# Altium integrated library National Semiconductor Switcher.IntLib: 2226 symbols (part 24 of 59)
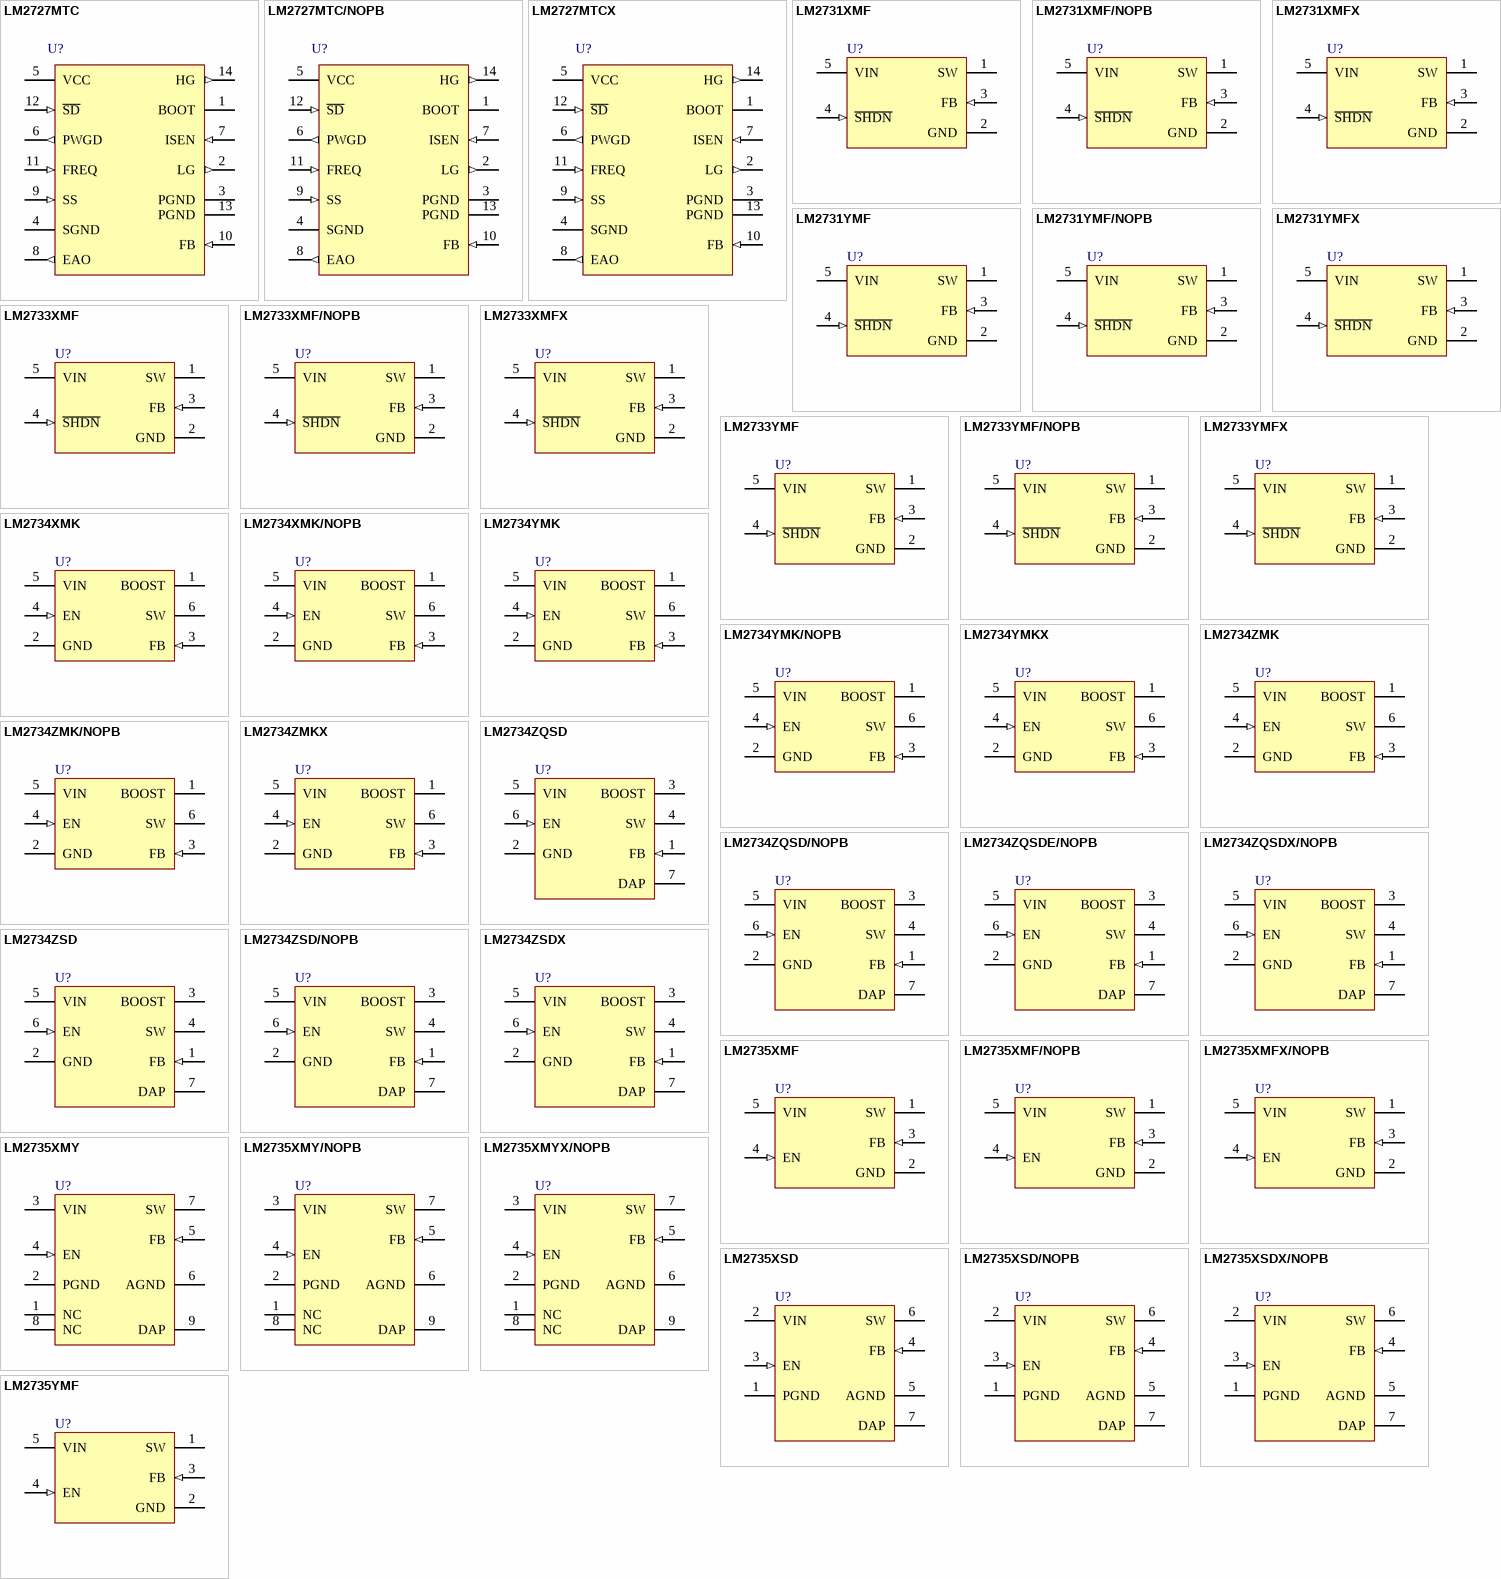
[diagram p92: symbols LM2727MTC to LM2735YMF]

## LM2735XMY
designator U?
520kHz/1.6MHz - Space-Efficient Boost and SEPIC DC-DC Regulator, 8-pin eMSOP; PartNumber: LM2735XMY; Manufacturer: National Semiconductor; PackageTopMarking: ZXTT*SRJB; PowerWise: N; CompType: Switcher; High-Reliability: Y; DatasheetVersion: Feb-2009; PackageVersion: revA, Nov-2003; PackageReference: MUY08A; PackageDescription: Molded Mini-SO, Exposed Pad, .118 x .118 x .034in Body, 8 Lead, .0256in Pitch; RoHS: Y; PinCount: 8; Code_JEDEC: MO-187-AA; ComponentLink1Description: Manufacturer URL; ComponentLink1URL: http://www.national.com/; ComponentLink2Description: LM2735 Datasheet; ComponentLink2URL: http://www.national.com/ds/LM/LM2735.pdf; ComponentLink3Description: LM2735 Web Page; ComponentLink3URL: http://www.national.com/pf/LM/LM2735.html; ComponentLink4Description: MUY08A Package Page; ComponentLink4URL: http://www.national.com/packaging/folders/muy08a.html
footprint MUY08A_N (TSOP, 8-Leads, Body 3x3mm, Pitch 0.65mm, Thermal Pad, IPC Medium Density)
footprint MUY08A_L (TSOP, 8-Leads, Body 3x3mm, Pitch 0.65mm, Thermal Pad, IPC High Density)
footprint MUY08A_M (TSOP, 8-Leads, Body 3x3mm, Pitch 0.65mm, Thermal Pad, IPC Low Density)
pins: 1 NC, 2 PGND (power), 3 VIN (power), 4 EN (in), 5 FB (in), 6 AGND (power), 7 SW (power), 8 NC, 9 DAP (power)

## LM2735XMY/NOPB
designator U?
520kHz/1.6MHz - Space-Efficient Boost and SEPIC DC-DC Regulator, 8-pin eMSOP, Pb-Free; PartNumber: LM2735XMY/NOPB; Manufacturer: National Semiconductor; PackageTopMarking: ZXTT*SRJB; PowerWise: N; CompType: Switcher; High-Reliability: Y; DatasheetVersion: Feb-2009; PackageVersion: revA, Nov-2003; PackageReference: MUY08A; PackageDescription: Molded Mini-SO, Exposed Pad, .118 x .118 x .034in Body, 8 Lead, .0256in Pitch; RoHS: Y; PinCount: 8; Code_JEDEC: MO-187-AA; ComponentLink1Description: Manufacturer URL; ComponentLink1URL: http://www.national.com/; ComponentLink2Description: LM2735 Datasheet; ComponentLink2URL: http://www.national.com/ds/LM/LM2735.pdf; ComponentLink3Description: LM2735 Web Page; ComponentLink3URL: http://www.national.com/pf/LM/LM2735.html; ComponentLink4Description: MUY08A Package Page; ComponentLink4URL: http://www.national.com/packaging/folders/muy08a.html
footprint MUY08A_N (TSOP, 8-Leads, Body 3x3mm, Pitch 0.65mm, Thermal Pad, IPC Medium Density)
footprint MUY08A_L (TSOP, 8-Leads, Body 3x3mm, Pitch 0.65mm, Thermal Pad, IPC High Density)
footprint MUY08A_M (TSOP, 8-Leads, Body 3x3mm, Pitch 0.65mm, Thermal Pad, IPC Low Density)
pins: 1 NC, 2 PGND (power), 3 VIN (power), 4 EN (in), 5 FB (in), 6 AGND (power), 7 SW (power), 8 NC, 9 DAP (power)

## LM2735XMYX/NOPB
designator U?
520kHz/1.6MHz - Space-Efficient Boost and SEPIC DC-DC Regulator, 8-pin eMSOP, Pb-Free; PartNumber: LM2735XMYX/NOPB; Manufacturer: National Semiconductor; PackageTopMarking: ZXTT*SRJB; PowerWise: N; CompType: Switcher; High-Reliability: Y; DatasheetVersion: Feb-2009; PackageVersion: revA, Nov-2003; PackageReference: MUY08A; PackageDescription: Molded Mini-SO, Exposed Pad, .118 x .118 x .034in Body, 8 Lead, .0256in Pitch; RoHS: Y; PinCount: 8; Code_JEDEC: MO-187-AA; ComponentLink1Description: Manufacturer URL; ComponentLink1URL: http://www.national.com/; ComponentLink2Description: LM2735 Datasheet; ComponentLink2URL: http://www.national.com/ds/LM/LM2735.pdf; ComponentLink3Description: LM2735 Web Page; ComponentLink3URL: http://www.national.com/pf/LM/LM2735.html; ComponentLink4Description: MUY08A Package Page; ComponentLink4URL: http://www.national.com/packaging/folders/muy08a.html
footprint MUY08A_N (TSOP, 8-Leads, Body 3x3mm, Pitch 0.65mm, Thermal Pad, IPC Medium Density)
footprint MUY08A_L (TSOP, 8-Leads, Body 3x3mm, Pitch 0.65mm, Thermal Pad, IPC High Density)
footprint MUY08A_M (TSOP, 8-Leads, Body 3x3mm, Pitch 0.65mm, Thermal Pad, IPC Low Density)
pins: 1 NC, 2 PGND (power), 3 VIN (power), 4 EN (in), 5 FB (in), 6 AGND (power), 7 SW (power), 8 NC, 9 DAP (power)

## LM2735XSD
designator U?
520kHz/1.6MHz - Space-Efficient Boost and SEPIC DC-DC Regulator, 6-pin LLP; PartNumber: LM2735XSD; Manufacturer: National Semiconductor; PackageTopMarking: ZXYTT*2735X; PowerWise: N; CompType: Switcher; High-Reliability: Y; DatasheetVersion: Feb-2009; PackageVersion: revA, Jul-2003; PackageReference: SDE06A; PackageDescription: LLP, Plastic, Dual, 3 x 3 x 0.8mm Body, 6 Lead, 0.95mm Pitch, No Pullback; RoHS: Y; PinCount: 6; ComponentLink1Description: Manufacturer URL; ComponentLink1URL: http://www.national.com/; ComponentLink2Description: LM2735 Datasheet; ComponentLink2URL: http://www.national.com/ds/LM/LM2735.pdf; ComponentLink3Description: LM2735 Web Page; ComponentLink3URL: http://www.national.com/pf/LM/LM2735.html; ComponentLink4Description: SDE06A Package Page; ComponentLink4URL: http://www.national.com/packaging/folders/sde06a.html
footprint SDE06A_full (SON, 6-Leads, Body 3x3 mm, Pitch 0.95mm, Full Paste, NSC Recommended)
footprint SDE06A_quad (SON, 6-Leads, Body 3x3 mm, Pitch 0.95mm, Quad Paste, NSC Recommended)
pins: 1 PGND (power), 2 VIN (power), 3 EN (in), 4 FB (in), 5 AGND (power), 6 SW (power), 7 DAP (power)

## LM2735XSD/NOPB
designator U?
520kHz/1.6MHz - Space-Efficient Boost and SEPIC DC-DC Regulator, 6-pin LLP, Pb-Free; PartNumber: LM2735XSD/NOPB; Manufacturer: National Semiconductor; PackageTopMarking: ZXYTT*2735X; PowerWise: N; CompType: Switcher; High-Reliability: Y; DatasheetVersion: Feb-2009; PackageVersion: revA, Jul-2003; PackageReference: SDE06A; PackageDescription: LLP, Plastic, Dual, 3 x 3 x 0.8mm Body, 6 Lead, 0.95mm Pitch, No Pullback; RoHS: Y; PinCount: 6; ComponentLink1Description: Manufacturer URL; ComponentLink1URL: http://www.national.com/; ComponentLink2Description: LM2735 Datasheet; ComponentLink2URL: http://www.national.com/ds/LM/LM2735.pdf; ComponentLink3Description: LM2735 Web Page; ComponentLink3URL: http://www.national.com/pf/LM/LM2735.html; ComponentLink4Description: SDE06A Package Page; ComponentLink4URL: http://www.national.com/packaging/folders/sde06a.html
footprint SDE06A_full (SON, 6-Leads, Body 3x3 mm, Pitch 0.95mm, Full Paste, NSC Recommended)
footprint SDE06A_quad (SON, 6-Leads, Body 3x3 mm, Pitch 0.95mm, Quad Paste, NSC Recommended)
pins: 1 PGND (power), 2 VIN (power), 3 EN (in), 4 FB (in), 5 AGND (power), 6 SW (power), 7 DAP (power)

## LM2735XSDX/NOPB
designator U?
520kHz/1.6MHz - Space-Efficient Boost and SEPIC DC-DC Regulator, 6-pin LLP, Pb-Free; PartNumber: LM2735XSDX/NOPB; Manufacturer: National Semiconductor; PackageTopMarking: ZXYTT*2735X; PowerWise: N; CompType: Switcher; High-Reliability: Y; DatasheetVersion: Feb-2009; PackageVersion: revA, Jul-2003; PackageReference: SDE06A; PackageDescription: LLP, Plastic, Dual, 3 x 3 x 0.8mm Body, 6 Lead, 0.95mm Pitch, No Pullback; RoHS: Y; PinCount: 6; ComponentLink1Description: Manufacturer URL; ComponentLink1URL: http://www.national.com/; ComponentLink2Description: LM2735 Datasheet; ComponentLink2URL: http://www.national.com/ds/LM/LM2735.pdf; ComponentLink3Description: LM2735 Web Page; ComponentLink3URL: http://www.national.com/pf/LM/LM2735.html; ComponentLink4Description: SDE06A Package Page; ComponentLink4URL: http://www.national.com/packaging/folders/sde06a.html
footprint SDE06A_full (SON, 6-Leads, Body 3x3 mm, Pitch 0.95mm, Full Paste, NSC Recommended)
footprint SDE06A_quad (SON, 6-Leads, Body 3x3 mm, Pitch 0.95mm, Quad Paste, NSC Recommended)
pins: 1 PGND (power), 2 VIN (power), 3 EN (in), 4 FB (in), 5 AGND (power), 6 SW (power), 7 DAP (power)

## LM2735YMF
designator U?
520kHz/1.6MHz - Space-Efficient Boost and SEPIC DC-DC Regulator, 5-pin SOT-23; PartNumber: LM2735YMF; Manufacturer: National Semiconductor; PackageTopMarking: SLFB*XTT; PowerWise: N; CompType: Switcher; High-Reliability: Y; DatasheetVersion: Feb-2009; PackageVersion: revD, Aug-2008; PackageReference: MF05A; PackageDescription: Molded SOT-23, .115 x .063 x .040 in Body, 5 Lead, .0375 in Pitch; RoHS: Y; PinCount: 5; ComponentLink1Description: Manufacturer URL; ComponentLink1URL: http://www.national.com/; ComponentLink2Description: LM2735 Datasheet; ComponentLink2URL: http://www.national.com/ds/LM/LM2735.pdf; ComponentLink3Description: LM2735 Web Page; ComponentLink3URL: http://www.national.com/pf/LM/LM2735.html; ComponentLink4Description: MF05A Package Page; ComponentLink4URL: http://www.national.com/packaging/folders/mf05a.html
footprint MF05A_N (SOT23, 5-Leads, Body 2.9x1.6mm, Pitch 0.95mm, Lead Span 2.8mm, IPC Medium Density)
footprint MF05A_L (SOT23, 5-Leads, Body 2.9x1.6mm, Pitch 0.95mm, Lead Span 2.8mm, IPC High Density)
footprint MF05A_M (SOT23, 5-Leads, Body 2.9x1.6mm, Pitch 0.95mm, Lead Span 2.8mm, IPC Low Density)
pins: 1 SW (power), 2 GND (power), 3 FB (in), 4 EN (in), 5 VIN (power)

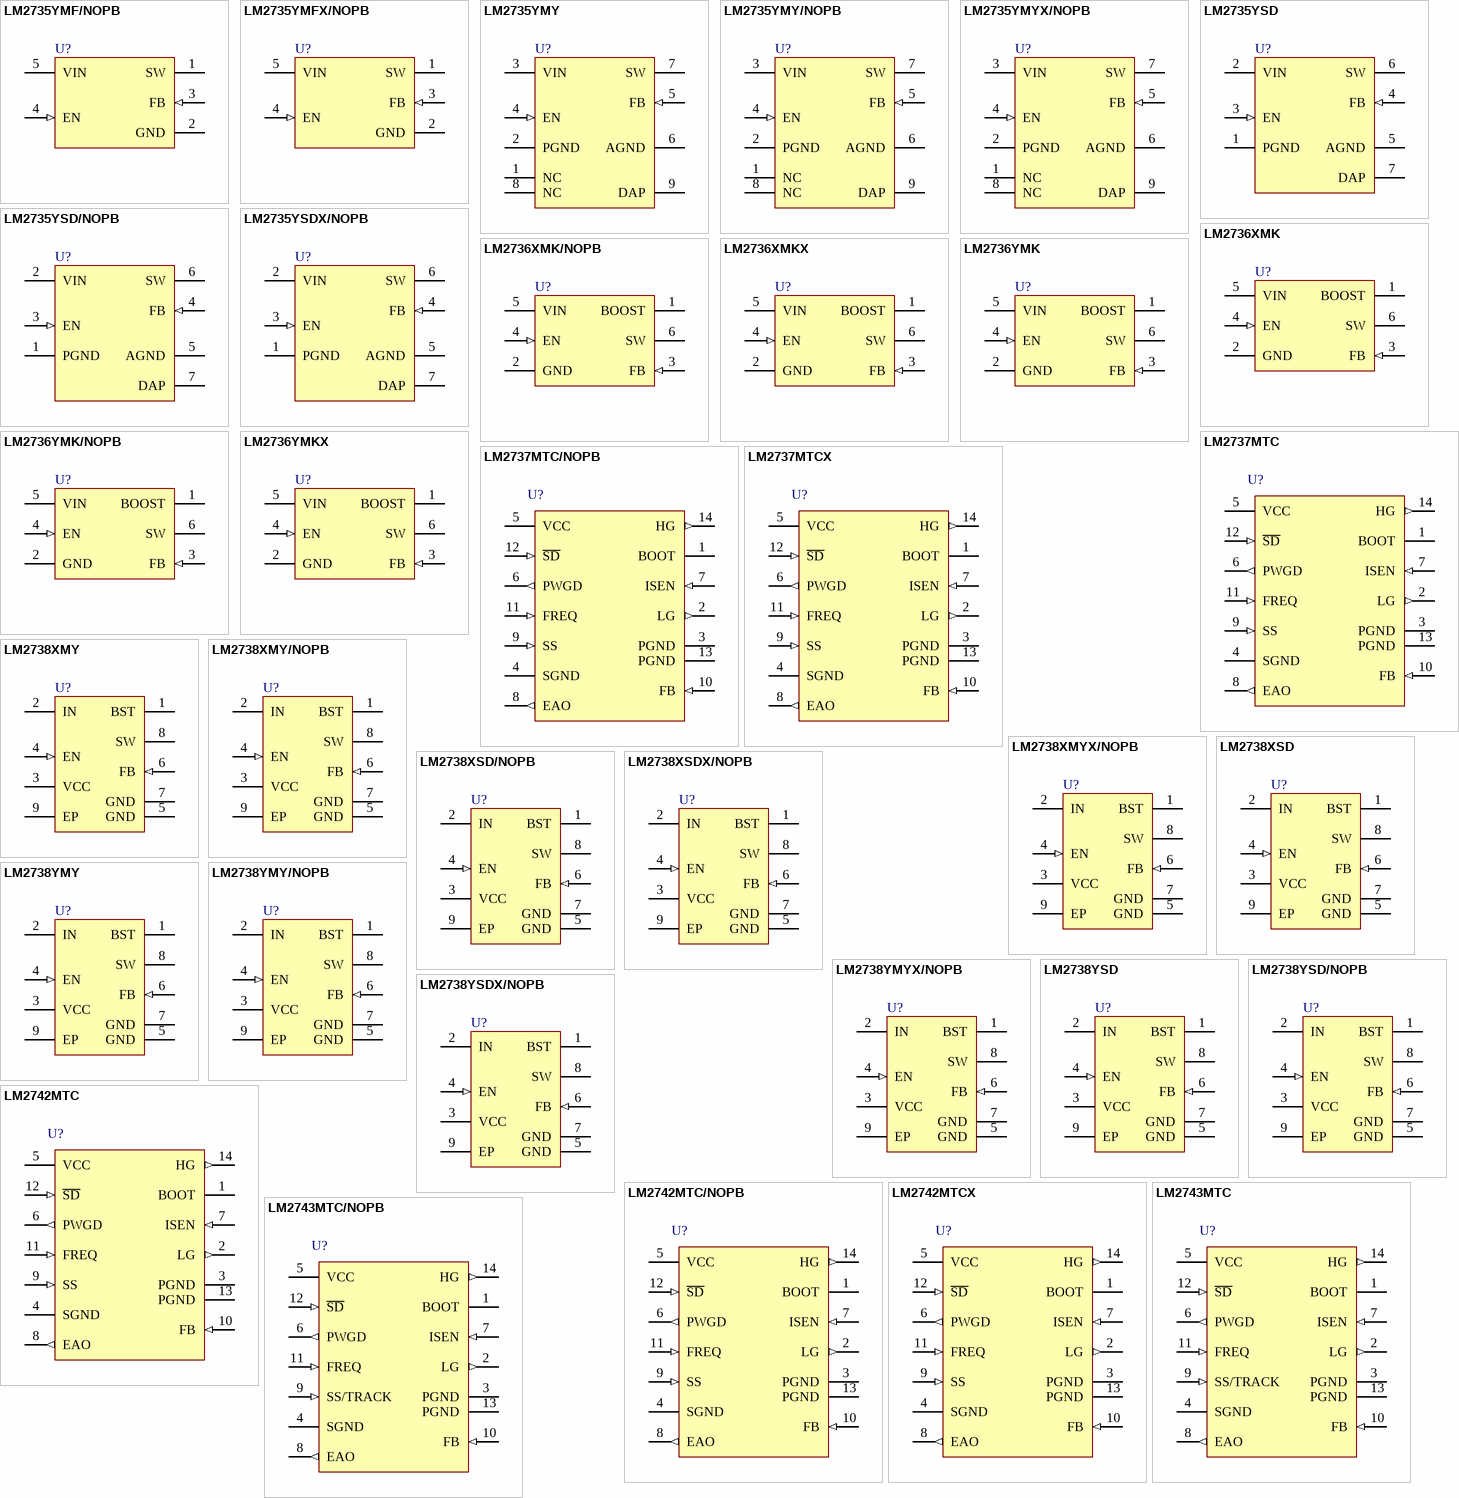
[diagram p25: symbols LM2735YMF/NOPB to LM2743MTC/NOPB]

## LM2735YMF/NOPB
designator U?
520kHz/1.6MHz - Space-Efficient Boost and SEPIC DC-DC Regulator, 5-pin SOT-23, Pb-Free; PartNumber: LM2735YMF/NOPB; Manufacturer: National Semiconductor; PackageTopMarking: SLFB*XTT; PowerWise: N; CompType: Switcher; High-Reliability: Y; DatasheetVersion: Feb-2009; PackageVersion: revD, Aug-2008; PackageReference: MF05A; PackageDescription: Molded SOT-23, .115 x .063 x .040 in Body, 5 Lead, .0375 in Pitch; RoHS: Y; PinCount: 5; ComponentLink1Description: Manufacturer URL; ComponentLink1URL: http://www.national.com/; ComponentLink2Description: LM2735 Datasheet; ComponentLink2URL: http://www.national.com/ds/LM/LM2735.pdf; ComponentLink3Description: LM2735 Web Page; ComponentLink3URL: http://www.national.com/pf/LM/LM2735.html; ComponentLink4Description: MF05A Package Page; ComponentLink4URL: http://www.national.com/packaging/folders/mf05a.html
footprint MF05A_N (SOT23, 5-Leads, Body 2.9x1.6mm, Pitch 0.95mm, Lead Span 2.8mm, IPC Medium Density)
footprint MF05A_L (SOT23, 5-Leads, Body 2.9x1.6mm, Pitch 0.95mm, Lead Span 2.8mm, IPC High Density)
footprint MF05A_M (SOT23, 5-Leads, Body 2.9x1.6mm, Pitch 0.95mm, Lead Span 2.8mm, IPC Low Density)
pins: 1 SW (power), 2 GND (power), 3 FB (in), 4 EN (in), 5 VIN (power)

## LM2735YMFX/NOPB
designator U?
520kHz/1.6MHz - Space-Efficient Boost and SEPIC DC-DC Regulator, 5-pin SOT-23, Pb-Free; PartNumber: LM2735YMFX/NOPB; Manufacturer: National Semiconductor; PackageTopMarking: SLFB*XTT; PowerWise: N; CompType: Switcher; High-Reliability: Y; DatasheetVersion: Feb-2009; PackageVersion: revD, Aug-2008; PackageReference: MF05A; PackageDescription: Molded SOT-23, .115 x .063 x .040 in Body, 5 Lead, .0375 in Pitch; RoHS: Y; PinCount: 5; ComponentLink1Description: Manufacturer URL; ComponentLink1URL: http://www.national.com/; ComponentLink2Description: LM2735 Datasheet; ComponentLink2URL: http://www.national.com/ds/LM/LM2735.pdf; ComponentLink3Description: LM2735 Web Page; ComponentLink3URL: http://www.national.com/pf/LM/LM2735.html; ComponentLink4Description: MF05A Package Page; ComponentLink4URL: http://www.national.com/packaging/folders/mf05a.html
footprint MF05A_N (SOT23, 5-Leads, Body 2.9x1.6mm, Pitch 0.95mm, Lead Span 2.8mm, IPC Medium Density)
footprint MF05A_L (SOT23, 5-Leads, Body 2.9x1.6mm, Pitch 0.95mm, Lead Span 2.8mm, IPC High Density)
footprint MF05A_M (SOT23, 5-Leads, Body 2.9x1.6mm, Pitch 0.95mm, Lead Span 2.8mm, IPC Low Density)
pins: 1 SW (power), 2 GND (power), 3 FB (in), 4 EN (in), 5 VIN (power)

## LM2735YMY
designator U?
520kHz/1.6MHz - Space-Efficient Boost and SEPIC DC-DC Regulator, 8-pin eMSOP; PartNumber: LM2735YMY; Manufacturer: National Semiconductor; PackageTopMarking: ZXTT*SRKB; PowerWise: N; CompType: Switcher; High-Reliability: Y; DatasheetVersion: Feb-2009; PackageVersion: revA, Nov-2003; PackageReference: MUY08A; PackageDescription: Molded Mini-SO, Exposed Pad, .118 x .118 x .034in Body, 8 Lead, .0256in Pitch; RoHS: Y; PinCount: 8; Code_JEDEC: MO-187-AA; ComponentLink1Description: Manufacturer URL; ComponentLink1URL: http://www.national.com/; ComponentLink2Description: LM2735 Datasheet; ComponentLink2URL: http://www.national.com/ds/LM/LM2735.pdf; ComponentLink3Description: LM2735 Web Page; ComponentLink3URL: http://www.national.com/pf/LM/LM2735.html; ComponentLink4Description: MUY08A Package Page; ComponentLink4URL: http://www.national.com/packaging/folders/muy08a.html
footprint MUY08A_N (TSOP, 8-Leads, Body 3x3mm, Pitch 0.65mm, Thermal Pad, IPC Medium Density)
footprint MUY08A_L (TSOP, 8-Leads, Body 3x3mm, Pitch 0.65mm, Thermal Pad, IPC High Density)
footprint MUY08A_M (TSOP, 8-Leads, Body 3x3mm, Pitch 0.65mm, Thermal Pad, IPC Low Density)
pins: 1 NC, 2 PGND (power), 3 VIN (power), 4 EN (in), 5 FB (in), 6 AGND (power), 7 SW (power), 8 NC, 9 DAP (power)

## LM2735YMY/NOPB
designator U?
520kHz/1.6MHz - Space-Efficient Boost and SEPIC DC-DC Regulator, 8-pin eMSOP, Pb-Free; PartNumber: LM2735YMY/NOPB; Manufacturer: National Semiconductor; PackageTopMarking: ZXTT*SRKB; PowerWise: N; CompType: Switcher; High-Reliability: Y; DatasheetVersion: Feb-2009; PackageVersion: revA, Nov-2003; PackageReference: MUY08A; PackageDescription: Molded Mini-SO, Exposed Pad, .118 x .118 x .034in Body, 8 Lead, .0256in Pitch; RoHS: Y; PinCount: 8; Code_JEDEC: MO-187-AA; ComponentLink1Description: Manufacturer URL; ComponentLink1URL: http://www.national.com/; ComponentLink2Description: LM2735 Datasheet; ComponentLink2URL: http://www.national.com/ds/LM/LM2735.pdf; ComponentLink3Description: LM2735 Web Page; ComponentLink3URL: http://www.national.com/pf/LM/LM2735.html; ComponentLink4Description: MUY08A Package Page; ComponentLink4URL: http://www.national.com/packaging/folders/muy08a.html
footprint MUY08A_N (TSOP, 8-Leads, Body 3x3mm, Pitch 0.65mm, Thermal Pad, IPC Medium Density)
footprint MUY08A_L (TSOP, 8-Leads, Body 3x3mm, Pitch 0.65mm, Thermal Pad, IPC High Density)
footprint MUY08A_M (TSOP, 8-Leads, Body 3x3mm, Pitch 0.65mm, Thermal Pad, IPC Low Density)
pins: 1 NC, 2 PGND (power), 3 VIN (power), 4 EN (in), 5 FB (in), 6 AGND (power), 7 SW (power), 8 NC, 9 DAP (power)

## LM2735YMYX/NOPB
designator U?
520kHz/1.6MHz - Space-Efficient Boost and SEPIC DC-DC Regulator, 8-pin eMSOP, Pb-Free; PartNumber: LM2735YMYX/NOPB; Manufacturer: National Semiconductor; PackageTopMarking: ZXTT*SRKB; PowerWise: N; CompType: Switcher; High-Reliability: Y; DatasheetVersion: Feb-2009; PackageVersion: revA, Nov-2003; PackageReference: MUY08A; PackageDescription: Molded Mini-SO, Exposed Pad, .118 x .118 x .034in Body, 8 Lead, .0256in Pitch; RoHS: Y; PinCount: 8; Code_JEDEC: MO-187-AA; ComponentLink1Description: Manufacturer URL; ComponentLink1URL: http://www.national.com/; ComponentLink2Description: LM2735 Datasheet; ComponentLink2URL: http://www.national.com/ds/LM/LM2735.pdf; ComponentLink3Description: LM2735 Web Page; ComponentLink3URL: http://www.national.com/pf/LM/LM2735.html; ComponentLink4Description: MUY08A Package Page; ComponentLink4URL: http://www.national.com/packaging/folders/muy08a.html
footprint MUY08A_N (TSOP, 8-Leads, Body 3x3mm, Pitch 0.65mm, Thermal Pad, IPC Medium Density)
footprint MUY08A_L (TSOP, 8-Leads, Body 3x3mm, Pitch 0.65mm, Thermal Pad, IPC High Density)
footprint MUY08A_M (TSOP, 8-Leads, Body 3x3mm, Pitch 0.65mm, Thermal Pad, IPC Low Density)
pins: 1 NC, 2 PGND (power), 3 VIN (power), 4 EN (in), 5 FB (in), 6 AGND (power), 7 SW (power), 8 NC, 9 DAP (power)

## LM2735YSD
designator U?
520kHz/1.6MHz - Space-Efficient Boost and SEPIC DC-DC Regulator, 6-pin LLP; PartNumber: LM2735YSD; Manufacturer: National Semiconductor; PackageTopMarking: ZXYTT*2735Y; PowerWise: N; CompType: Switcher; High-Reliability: Y; DatasheetVersion: Feb-2009; PackageVersion: revA, Jul-2003; PackageReference: SDE06A; PackageDescription: LLP, Plastic, Dual, 3 x 3 x 0.8mm Body, 6 Lead, 0.95mm Pitch, No Pullback; RoHS: Y; PinCount: 6; ComponentLink1Description: Manufacturer URL; ComponentLink1URL: http://www.national.com/; ComponentLink2Description: LM2735 Datasheet; ComponentLink2URL: http://www.national.com/ds/LM/LM2735.pdf; ComponentLink3Description: LM2735 Web Page; ComponentLink3URL: http://www.national.com/pf/LM/LM2735.html; ComponentLink4Description: SDE06A Package Page; ComponentLink4URL: http://www.national.com/packaging/folders/sde06a.html
footprint SDE06A_full (SON, 6-Leads, Body 3x3 mm, Pitch 0.95mm, Full Paste, NSC Recommended)
footprint SDE06A_quad (SON, 6-Leads, Body 3x3 mm, Pitch 0.95mm, Quad Paste, NSC Recommended)
pins: 1 PGND (power), 2 VIN (power), 3 EN (in), 4 FB (in), 5 AGND (power), 6 SW (power), 7 DAP (power)

## LM2735YSD/NOPB
designator U?
520kHz/1.6MHz - Space-Efficient Boost and SEPIC DC-DC Regulator, 6-pin LLP, Pb-Free; PartNumber: LM2735YSD/NOPB; Manufacturer: National Semiconductor; PackageTopMarking: ZXYTT*2735Y; PowerWise: N; CompType: Switcher; High-Reliability: Y; DatasheetVersion: Feb-2009; PackageVersion: revA, Jul-2003; PackageReference: SDE06A; PackageDescription: LLP, Plastic, Dual, 3 x 3 x 0.8mm Body, 6 Lead, 0.95mm Pitch, No Pullback; RoHS: Y; PinCount: 6; ComponentLink1Description: Manufacturer URL; ComponentLink1URL: http://www.national.com/; ComponentLink2Description: LM2735 Datasheet; ComponentLink2URL: http://www.national.com/ds/LM/LM2735.pdf; ComponentLink3Description: LM2735 Web Page; ComponentLink3URL: http://www.national.com/pf/LM/LM2735.html; ComponentLink4Description: SDE06A Package Page; ComponentLink4URL: http://www.national.com/packaging/folders/sde06a.html
footprint SDE06A_full (SON, 6-Leads, Body 3x3 mm, Pitch 0.95mm, Full Paste, NSC Recommended)
footprint SDE06A_quad (SON, 6-Leads, Body 3x3 mm, Pitch 0.95mm, Quad Paste, NSC Recommended)
pins: 1 PGND (power), 2 VIN (power), 3 EN (in), 4 FB (in), 5 AGND (power), 6 SW (power), 7 DAP (power)

## LM2735YSDX/NOPB
designator U?
520kHz/1.6MHz - Space-Efficient Boost and SEPIC DC-DC Regulator, 6-pin LLP, Pb-Free; PartNumber: LM2735YSDX/NOPB; Manufacturer: National Semiconductor; PackageTopMarking: ZXYTT*2735Y; PowerWise: N; CompType: Switcher; High-Reliability: Y; DatasheetVersion: Feb-2009; PackageVersion: revA, Jul-2003; PackageReference: SDE06A; PackageDescription: LLP, Plastic, Dual, 3 x 3 x 0.8mm Body, 6 Lead, 0.95mm Pitch, No Pullback; RoHS: Y; PinCount: 6; ComponentLink1Description: Manufacturer URL; ComponentLink1URL: http://www.national.com/; ComponentLink2Description: LM2735 Datasheet; ComponentLink2URL: http://www.national.com/ds/LM/LM2735.pdf; ComponentLink3Description: LM2735 Web Page; ComponentLink3URL: http://www.national.com/pf/LM/LM2735.html; ComponentLink4Description: SDE06A Package Page; ComponentLink4URL: http://www.national.com/packaging/folders/sde06a.html
footprint SDE06A_full (SON, 6-Leads, Body 3x3 mm, Pitch 0.95mm, Full Paste, NSC Recommended)
footprint SDE06A_quad (SON, 6-Leads, Body 3x3 mm, Pitch 0.95mm, Quad Paste, NSC Recommended)
pins: 1 PGND (power), 2 VIN (power), 3 EN (in), 4 FB (in), 5 AGND (power), 6 SW (power), 7 DAP (power)

## LM2736XMK
designator U?
750mA Load Step-Down DC-DC Regulator, 6-pin Tiny SOT23; PartNumber: LM2736XMK; Manufacturer: National Semiconductor; PackageTopMarking: SHAB*XTT; PowerWise: N; CompType: Switcher; High-Reliability: Y; DatasheetVersion: Jan-2005; PackageVersion: revE, Nov-2008; PackageReference: MK06A; PackageDescription: Molded TSOT, 2.97 x 1.65 x 0.87mm Body, 6 Lead, 0.95mm Pitch; RoHS: N; PinCount: 6; Code_JEDEC: MO-193-AA; Code_IPC: SOT26A-6; ComponentLink1Description: Manufacturer URL; ComponentLink1URL: http://www.national.com/; ComponentLink2Description: LM2736 Datasheet; ComponentLink2URL: http://www.national.com/ds/LM/LM2736.pdf; ComponentLink3Description: LM2736 Web Page; ComponentLink3URL: http://www.national.com/pf/LM/LM2736.html; ComponentLink4Description: MK06A Package Page; ComponentLink4URL: http://www.national.com/packaging/folders/mk06a.html
footprint MK06A_N (SOT23, 6-Leads, Body 3.0x1.7mm, Pitch 0.95mm, Lead Span 2.9mm, IPC Medium Density)
footprint MK06A_L (SOT23, 6-Leads, Body 3.0x1.7mm, Pitch 0.95mm, Lead Span 2.9mm, IPC High Density)
footprint MK06A_M (SOT23, 6-Leads, Body 3.0x1.7mm, Pitch 0.95mm, Lead Span 2.9mm, IPC Low Density)
pins: 1 BOOST, 2 GND (power), 3 FB (in), 4 EN (in), 5 VIN (power), 6 SW (power)

## LM2736XMK/NOPB
designator U?
750mA Load Step-Down DC-DC Regulator, 6-pin Tiny SOT23, Pb-Free; PartNumber: LM2736XMK/NOPB; Manufacturer: National Semiconductor; PackageTopMarking: SHAB*XTT; PowerWise: N; CompType: Switcher; High-Reliability: Y; DatasheetVersion: Jan-2005; PackageVersion: revE, Nov-2008; PackageReference: MK06A; PackageDescription: Molded TSOT, 2.97 x 1.65 x 0.87mm Body, 6 Lead, 0.95mm Pitch; RoHS: Y; PinCount: 6; Code_JEDEC: MO-193-AA; Code_IPC: SOT26A-6; ComponentLink1Description: Manufacturer URL; ComponentLink1URL: http://www.national.com/; ComponentLink2Description: LM2736 Datasheet; ComponentLink2URL: http://www.national.com/ds/LM/LM2736.pdf; ComponentLink3Description: LM2736 Web Page; ComponentLink3URL: http://www.national.com/pf/LM/LM2736.html; ComponentLink4Description: MK06A Package Page; ComponentLink4URL: http://www.national.com/packaging/folders/mk06a.html
footprint MK06A_N (SOT23, 6-Leads, Body 3.0x1.7mm, Pitch 0.95mm, Lead Span 2.9mm, IPC Medium Density)
footprint MK06A_L (SOT23, 6-Leads, Body 3.0x1.7mm, Pitch 0.95mm, Lead Span 2.9mm, IPC High Density)
footprint MK06A_M (SOT23, 6-Leads, Body 3.0x1.7mm, Pitch 0.95mm, Lead Span 2.9mm, IPC Low Density)
pins: 1 BOOST, 2 GND (power), 3 FB (in), 4 EN (in), 5 VIN (power), 6 SW (power)

## LM2736XMKX
designator U?
750mA Load Step-Down DC-DC Regulator, 6-pin Tiny SOT23; PartNumber: LM2736XMKX; Manufacturer: National Semiconductor; PackageTopMarking: SHAB*XTT; PowerWise: N; CompType: Switcher; High-Reliability: Y; DatasheetVersion: Jan-2005; PackageVersion: revE, Nov-2008; PackageReference: MK06A; PackageDescription: Molded TSOT, 2.97 x 1.65 x 0.87mm Body, 6 Lead, 0.95mm Pitch; RoHS: N; PinCount: 6; Code_JEDEC: MO-193-AA; Code_IPC: SOT26A-6; ComponentLink1Description: Manufacturer URL; ComponentLink1URL: http://www.national.com/; ComponentLink2Description: LM2736 Datasheet; ComponentLink2URL: http://www.national.com/ds/LM/LM2736.pdf; ComponentLink3Description: LM2736 Web Page; ComponentLink3URL: http://www.national.com/pf/LM/LM2736.html; ComponentLink4Description: MK06A Package Page; ComponentLink4URL: http://www.national.com/packaging/folders/mk06a.html
footprint MK06A_N (SOT23, 6-Leads, Body 3.0x1.7mm, Pitch 0.95mm, Lead Span 2.9mm, IPC Medium Density)
footprint MK06A_L (SOT23, 6-Leads, Body 3.0x1.7mm, Pitch 0.95mm, Lead Span 2.9mm, IPC High Density)
footprint MK06A_M (SOT23, 6-Leads, Body 3.0x1.7mm, Pitch 0.95mm, Lead Span 2.9mm, IPC Low Density)
pins: 1 BOOST, 2 GND (power), 3 FB (in), 4 EN (in), 5 VIN (power), 6 SW (power)

## LM2736YMK
designator U?
750mA Load Step-Down DC-DC Regulator, 6-pin Tiny SOT23; PartNumber: LM2736YMK; Manufacturer: National Semiconductor; PackageTopMarking: SHBB*XTT; PowerWise: N; CompType: Switcher; High-Reliability: Y; DatasheetVersion: Jan-2005; PackageVersion: revE, Nov-2008; PackageReference: MK06A; PackageDescription: Molded TSOT, 2.97 x 1.65 x 0.87mm Body, 6 Lead, 0.95mm Pitch; RoHS: N; PinCount: 6; Code_JEDEC: MO-193-AA; Code_IPC: SOT26A-6; ComponentLink1Description: Manufacturer URL; ComponentLink1URL: http://www.national.com/; ComponentLink2Description: LM2736 Datasheet; ComponentLink2URL: http://www.national.com/ds/LM/LM2736.pdf; ComponentLink3Description: LM2736 Web Page; ComponentLink3URL: http://www.national.com/pf/LM/LM2736.html; ComponentLink4Description: MK06A Package Page; ComponentLink4URL: http://www.national.com/packaging/folders/mk06a.html
footprint MK06A_N (SOT23, 6-Leads, Body 3.0x1.7mm, Pitch 0.95mm, Lead Span 2.9mm, IPC Medium Density)
footprint MK06A_L (SOT23, 6-Leads, Body 3.0x1.7mm, Pitch 0.95mm, Lead Span 2.9mm, IPC High Density)
footprint MK06A_M (SOT23, 6-Leads, Body 3.0x1.7mm, Pitch 0.95mm, Lead Span 2.9mm, IPC Low Density)
pins: 1 BOOST, 2 GND (power), 3 FB (in), 4 EN (in), 5 VIN (power), 6 SW (power)

## LM2736YMK/NOPB
designator U?
750mA Load Step-Down DC-DC Regulator, 6-pin Tiny SOT23, Pb-Free; PartNumber: LM2736YMK/NOPB; Manufacturer: National Semiconductor; PackageTopMarking: SHBB*XTT; PowerWise: N; CompType: Switcher; High-Reliability: Y; DatasheetVersion: Jan-2005; PackageVersion: revE, Nov-2008; PackageReference: MK06A; PackageDescription: Molded TSOT, 2.97 x 1.65 x 0.87mm Body, 6 Lead, 0.95mm Pitch; RoHS: Y; PinCount: 6; Code_JEDEC: MO-193-AA; Code_IPC: SOT26A-6; ComponentLink1Description: Manufacturer URL; ComponentLink1URL: http://www.national.com/; ComponentLink2Description: LM2736 Datasheet; ComponentLink2URL: http://www.national.com/ds/LM/LM2736.pdf; ComponentLink3Description: LM2736 Web Page; ComponentLink3URL: http://www.national.com/pf/LM/LM2736.html; ComponentLink4Description: MK06A Package Page; ComponentLink4URL: http://www.national.com/packaging/folders/mk06a.html
footprint MK06A_N (SOT23, 6-Leads, Body 3.0x1.7mm, Pitch 0.95mm, Lead Span 2.9mm, IPC Medium Density)
footprint MK06A_L (SOT23, 6-Leads, Body 3.0x1.7mm, Pitch 0.95mm, Lead Span 2.9mm, IPC High Density)
footprint MK06A_M (SOT23, 6-Leads, Body 3.0x1.7mm, Pitch 0.95mm, Lead Span 2.9mm, IPC Low Density)
pins: 1 BOOST, 2 GND (power), 3 FB (in), 4 EN (in), 5 VIN (power), 6 SW (power)

## LM2736YMKX
designator U?
750mA Load Step-Down DC-DC Regulator, 6-pin Tiny SOT23; PartNumber: LM2736YMKX; Manufacturer: National Semiconductor; PackageTopMarking: SHBB*XTT; PowerWise: N; CompType: Switcher; High-Reliability: Y; DatasheetVersion: Jan-2005; PackageVersion: revE, Nov-2008; PackageReference: MK06A; PackageDescription: Molded TSOT, 2.97 x 1.65 x 0.87mm Body, 6 Lead, 0.95mm Pitch; RoHS: N; PinCount: 6; Code_JEDEC: MO-193-AA; Code_IPC: SOT26A-6; ComponentLink1Description: Manufacturer URL; ComponentLink1URL: http://www.national.com/; ComponentLink2Description: LM2736 Datasheet; ComponentLink2URL: http://www.national.com/ds/LM/LM2736.pdf; ComponentLink3Description: LM2736 Web Page; ComponentLink3URL: http://www.national.com/pf/LM/LM2736.html; ComponentLink4Description: MK06A Package Page; ComponentLink4URL: http://www.national.com/packaging/folders/mk06a.html
footprint MK06A_N (SOT23, 6-Leads, Body 3.0x1.7mm, Pitch 0.95mm, Lead Span 2.9mm, IPC Medium Density)
footprint MK06A_L (SOT23, 6-Leads, Body 3.0x1.7mm, Pitch 0.95mm, Lead Span 2.9mm, IPC High Density)
footprint MK06A_M (SOT23, 6-Leads, Body 3.0x1.7mm, Pitch 0.95mm, Lead Span 2.9mm, IPC Low Density)
pins: 1 BOOST, 2 GND (power), 3 FB (in), 4 EN (in), 5 VIN (power), 6 SW (power)

## LM2737MTC
designator U?
N-Channel FET Synchronous Buck Regulator Controller for Low Output Voltages, 14-pin TSSOP; PartNumber: LM2737MTC; Manufacturer: National Semiconductor; PackageTopMarking: NSZXYTT*2737*MTC; PowerWise: N; CompType: Switcher; High-Reliability: Y; DatasheetVersion: Jun-2003; PackageVersion: revD, Jun-2003; PackageReference: MTC14; PackageDescription: Molded TSSOP, JEDEC, 5 x 4.4 x 0.9mm Body, 14 Lead, 0.65mm Pitch; RoHS: N; PinCount: 14; Code_JEDEC: MO-153-AB-1; ComponentLink1Description: Manufacturer URL; ComponentLink1URL: http://www.national.com/; ComponentLink2Description: LM2737 Datasheet; ComponentLink2URL: http://www.national.com/ds/LM/LM2737.pdf; ComponentLink3Description: LM2737 Web Page; ComponentLink3URL: http://www.national.com/pf/LM/LM2737.html; ComponentLink4Description: MTC14 Package Page; ComponentLink4URL: http://www.national.com/packaging/folders/mtc14.html
footprint MTC14_N (TSOP, 14-Leads, Body 5x4.4mm, Pitch 0.65mm, IPC Medium Density)
footprint MTC14_L (TSOP, 14-Leads, Body 5x4.4mm, Pitch 0.65mm, IPC High Density)
footprint MTC14_M (TSOP, 14-Leads, Body 5x4.4mm, Pitch 0.65mm, IPC Low Density)
pins: 1 BOOT, 2 LG (out), 3 PGND (power), 4 SGND (power), 5 VCC (power), 6 PWGD (out), 7 ISEN (in), 8 EAO (out), 9 SS (in), 10 FB (in), 11 FREQ (in), 12 ~{SD} (in), 13 PGND (power), 14 HG (out)

## LM2737MTC/NOPB
designator U?
N-Channel FET Synchronous Buck Regulator Controller for Low Output Voltages, 14-pin TSSOP, Pb-Free; PartNumber: LM2737MTC/NOPB; Manufacturer: National Semiconductor; PackageTopMarking: NSZXYTT*2737*MTC; PowerWise: N; CompType: Switcher; High-Reliability: Y; DatasheetVersion: Jun-2003; PackageVersion: revD, Jun-2003; PackageReference: MTC14; PackageDescription: Molded TSSOP, JEDEC, 5 x 4.4 x 0.9mm Body, 14 Lead, 0.65mm Pitch; RoHS: Y; PinCount: 14; Code_JEDEC: MO-153-AB-1; ComponentLink1Description: Manufacturer URL; ComponentLink1URL: http://www.national.com/; ComponentLink2Description: LM2737 Datasheet; ComponentLink2URL: http://www.national.com/ds/LM/LM2737.pdf; ComponentLink3Description: LM2737 Web Page; ComponentLink3URL: http://www.national.com/pf/LM/LM2737.html; ComponentLink4Description: MTC14 Package Page; ComponentLink4URL: http://www.national.com/packaging/folders/mtc14.html
footprint MTC14_N (TSOP, 14-Leads, Body 5x4.4mm, Pitch 0.65mm, IPC Medium Density)
footprint MTC14_L (TSOP, 14-Leads, Body 5x4.4mm, Pitch 0.65mm, IPC High Density)
footprint MTC14_M (TSOP, 14-Leads, Body 5x4.4mm, Pitch 0.65mm, IPC Low Density)
pins: 1 BOOT, 2 LG (out), 3 PGND (power), 4 SGND (power), 5 VCC (power), 6 PWGD (out), 7 ISEN (in), 8 EAO (out), 9 SS (in), 10 FB (in), 11 FREQ (in), 12 ~{SD} (in), 13 PGND (power), 14 HG (out)

## LM2737MTCX
designator U?
N-Channel FET Synchronous Buck Regulator Controller for Low Output Voltages, 14-pin TSSOP; PartNumber: LM2737MTCX; Manufacturer: National Semiconductor; PackageTopMarking: NSZXYTT*2737*MTC; PowerWise: N; CompType: Switcher; High-Reliability: Y; DatasheetVersion: Jun-2003; PackageVersion: revD, Jun-2003; PackageReference: MTC14; PackageDescription: Molded TSSOP, JEDEC, 5 x 4.4 x 0.9mm Body, 14 Lead, 0.65mm Pitch; RoHS: N; PinCount: 14; Code_JEDEC: MO-153-AB-1; ComponentLink1Description: Manufacturer URL; ComponentLink1URL: http://www.national.com/; ComponentLink2Description: LM2737 Datasheet; ComponentLink2URL: http://www.national.com/ds/LM/LM2737.pdf; ComponentLink3Description: LM2737 Web Page; ComponentLink3URL: http://www.national.com/pf/LM/LM2737.html; ComponentLink4Description: MTC14 Package Page; ComponentLink4URL: http://www.national.com/packaging/folders/mtc14.html
footprint MTC14_N (TSOP, 14-Leads, Body 5x4.4mm, Pitch 0.65mm, IPC Medium Density)
footprint MTC14_L (TSOP, 14-Leads, Body 5x4.4mm, Pitch 0.65mm, IPC High Density)
footprint MTC14_M (TSOP, 14-Leads, Body 5x4.4mm, Pitch 0.65mm, IPC Low Density)
pins: 1 BOOT, 2 LG (out), 3 PGND (power), 4 SGND (power), 5 VCC (power), 6 PWGD (out), 7 ISEN (in), 8 EAO (out), 9 SS (in), 10 FB (in), 11 FREQ (in), 12 ~{SD} (in), 13 PGND (power), 14 HG (out)

## LM2738XMY
designator U?
550kHz/1.6MHz 1.5A Step-Down DC-DC Switching Regulator, 8-pin eMSOP; PartNumber: LM2738XMY; Manufacturer: National Semiconductor; PackageTopMarking: ZXTT*STDB; PowerWise: N; CompType: Switcher; High-Reliability: Y; DatasheetVersion: Apr-2008; PackageVersion: revA, Nov-2003; PackageReference: MUY08A; PackageDescription: Molded Mini-SO, Exposed Pad, .118 x .118 x .034in Body, 8 Lead, .0256in Pitch; RoHS: Y; PinCount: 8; Code_JEDEC: MO-187-AA; ComponentLink1Description: Manufacturer URL; ComponentLink1URL: http://www.national.com/; ComponentLink2Description: LM2738 Datasheet; ComponentLink2URL: http://www.national.com/ds/LM/LM2738.pdf; ComponentLink3Description: LM2738 Web Page; ComponentLink3URL: http://www.national.com/pf/LM/LM2738.html; ComponentLink4Description: MUY08A Package Page; ComponentLink4URL: http://www.national.com/packaging/folders/muy08a.html
footprint MUY08A_N (TSOP, 8-Leads, Body 3x3mm, Pitch 0.65mm, Thermal Pad, IPC Medium Density)
footprint MUY08A_L (TSOP, 8-Leads, Body 3x3mm, Pitch 0.65mm, Thermal Pad, IPC High Density)
footprint MUY08A_M (TSOP, 8-Leads, Body 3x3mm, Pitch 0.65mm, Thermal Pad, IPC Low Density)
pins: 1 BST, 2 IN (power), 3 VCC (power), 4 EN (in), 5 GND (power), 6 FB (in), 7 GND (power), 8 SW (power), 9 EP (power)

## LM2738XMY/NOPB
designator U?
550kHz/1.6MHz 1.5A Step-Down DC-DC Switching Regulator, 8-pin eMSOP, Pb-Free; PartNumber: LM2738XMY/NOPB; Manufacturer: National Semiconductor; PackageTopMarking: ZXTT*STDB; PowerWise: N; CompType: Switcher; High-Reliability: Y; DatasheetVersion: Apr-2008; PackageVersion: revA, Nov-2003; PackageReference: MUY08A; PackageDescription: Molded Mini-SO, Exposed Pad, .118 x .118 x .034in Body, 8 Lead, .0256in Pitch; RoHS: Y; PinCount: 8; Code_JEDEC: MO-187-AA; ComponentLink1Description: Manufacturer URL; ComponentLink1URL: http://www.national.com/; ComponentLink2Description: LM2738 Datasheet; ComponentLink2URL: http://www.national.com/ds/LM/LM2738.pdf; ComponentLink3Description: LM2738 Web Page; ComponentLink3URL: http://www.national.com/pf/LM/LM2738.html; ComponentLink4Description: MUY08A Package Page; ComponentLink4URL: http://www.national.com/packaging/folders/muy08a.html
footprint MUY08A_N (TSOP, 8-Leads, Body 3x3mm, Pitch 0.65mm, Thermal Pad, IPC Medium Density)
footprint MUY08A_L (TSOP, 8-Leads, Body 3x3mm, Pitch 0.65mm, Thermal Pad, IPC High Density)
footprint MUY08A_M (TSOP, 8-Leads, Body 3x3mm, Pitch 0.65mm, Thermal Pad, IPC Low Density)
pins: 1 BST, 2 IN (power), 3 VCC (power), 4 EN (in), 5 GND (power), 6 FB (in), 7 GND (power), 8 SW (power), 9 EP (power)

## LM2738XMYX/NOPB
designator U?
550kHz/1.6MHz 1.5A Step-Down DC-DC Switching Regulator, 8-pin eMSOP, Pb-Free; PartNumber: LM2738XMYX/NOPB; Manufacturer: National Semiconductor; PackageTopMarking: ZXTT*STDB; PowerWise: N; CompType: Switcher; High-Reliability: Y; DatasheetVersion: Apr-2008; PackageVersion: revA, Nov-2003; PackageReference: MUY08A; PackageDescription: Molded Mini-SO, Exposed Pad, .118 x .118 x .034in Body, 8 Lead, .0256in Pitch; RoHS: Y; PinCount: 8; Code_JEDEC: MO-187-AA; ComponentLink1Description: Manufacturer URL; ComponentLink1URL: http://www.national.com/; ComponentLink2Description: LM2738 Datasheet; ComponentLink2URL: http://www.national.com/ds/LM/LM2738.pdf; ComponentLink3Description: LM2738 Web Page; ComponentLink3URL: http://www.national.com/pf/LM/LM2738.html; ComponentLink4Description: MUY08A Package Page; ComponentLink4URL: http://www.national.com/packaging/folders/muy08a.html
footprint MUY08A_N (TSOP, 8-Leads, Body 3x3mm, Pitch 0.65mm, Thermal Pad, IPC Medium Density)
footprint MUY08A_L (TSOP, 8-Leads, Body 3x3mm, Pitch 0.65mm, Thermal Pad, IPC High Density)
footprint MUY08A_M (TSOP, 8-Leads, Body 3x3mm, Pitch 0.65mm, Thermal Pad, IPC Low Density)
pins: 1 BST, 2 IN (power), 3 VCC (power), 4 EN (in), 5 GND (power), 6 FB (in), 7 GND (power), 8 SW (power), 9 EP (power)

## LM2738XSD
designator U?
550kHz/1.6MHz 1.5A Step-Down DC-DC Switching Regulator, 8-pin LLP; PartNumber: LM2738XSD; Manufacturer: National Semiconductor; PackageTopMarking: ZXYTT*L237B; PowerWise: N; CompType: Switcher; High-Reliability: Y; DatasheetVersion: Apr-2008; PackageVersion: revA, Aug-2003; PackageReference: SDA08A; PackageDescription: LLP, Plastic, Dual, 3 x 3 x 0.8mm Body, 8 Lead, 0.5mm Pitch, No Pullback; RoHS: Y; PinCount: 8; ComponentLink1Description: Manufacturer URL; ComponentLink1URL: http://www.national.com/; ComponentLink2Description: LM2738 Datasheet; ComponentLink2URL: http://www.national.com/ds/LM/LM2738.pdf; ComponentLink3Description: LM2738 Web Page; ComponentLink3URL: http://www.national.com/pf/LM/LM2738.html; ComponentLink4Description: SDA08A Package Page; ComponentLink4URL: http://www.national.com/packaging/folders/sda08a.html
footprint SDA08A (SON, 8-Leads, Body 3x3mm, Pitch 0.5mm, NSC Recommended)
pins: 1 BST, 2 IN (power), 3 VCC (power), 4 EN (in), 5 GND (power), 6 FB (in), 7 GND (power), 8 SW (power), 9 EP (power)

## LM2738XSD/NOPB
designator U?
550kHz/1.6MHz 1.5A Step-Down DC-DC Switching Regulator, 8-pin LLP, Pb-Free; PartNumber: LM2738XSD/NOPB; Manufacturer: National Semiconductor; PackageTopMarking: ZXYTT*L237B; PowerWise: N; CompType: Switcher; High-Reliability: Y; DatasheetVersion: Apr-2008; PackageVersion: revA, Aug-2003; PackageReference: SDA08A; PackageDescription: LLP, Plastic, Dual, 3 x 3 x 0.8mm Body, 8 Lead, 0.5mm Pitch, No Pullback; RoHS: Y; PinCount: 8; ComponentLink1Description: Manufacturer URL; ComponentLink1URL: http://www.national.com/; ComponentLink2Description: LM2738 Datasheet; ComponentLink2URL: http://www.national.com/ds/LM/LM2738.pdf; ComponentLink3Description: LM2738 Web Page; ComponentLink3URL: http://www.national.com/pf/LM/LM2738.html; ComponentLink4Description: SDA08A Package Page; ComponentLink4URL: http://www.national.com/packaging/folders/sda08a.html
footprint SDA08A (SON, 8-Leads, Body 3x3mm, Pitch 0.5mm, NSC Recommended)
pins: 1 BST, 2 IN (power), 3 VCC (power), 4 EN (in), 5 GND (power), 6 FB (in), 7 GND (power), 8 SW (power), 9 EP (power)

## LM2738XSDX/NOPB
designator U?
550kHz/1.6MHz 1.5A Step-Down DC-DC Switching Regulator, 8-pin LLP, Pb-Free; PartNumber: LM2738XSDX/NOPB; Manufacturer: National Semiconductor; PackageTopMarking: ZXYTT*L237B; PowerWise: N; CompType: Switcher; High-Reliability: Y; DatasheetVersion: Apr-2008; PackageVersion: revA, Aug-2003; PackageReference: SDA08A; PackageDescription: LLP, Plastic, Dual, 3 x 3 x 0.8mm Body, 8 Lead, 0.5mm Pitch, No Pullback; RoHS: Y; PinCount: 8; ComponentLink1Description: Manufacturer URL; ComponentLink1URL: http://www.national.com/; ComponentLink2Description: LM2738 Datasheet; ComponentLink2URL: http://www.national.com/ds/LM/LM2738.pdf; ComponentLink3Description: LM2738 Web Page; ComponentLink3URL: http://www.national.com/pf/LM/LM2738.html; ComponentLink4Description: SDA08A Package Page; ComponentLink4URL: http://www.national.com/packaging/folders/sda08a.html
footprint SDA08A (SON, 8-Leads, Body 3x3mm, Pitch 0.5mm, NSC Recommended)
pins: 1 BST, 2 IN (power), 3 VCC (power), 4 EN (in), 5 GND (power), 6 FB (in), 7 GND (power), 8 SW (power), 9 EP (power)

## LM2738YMY
designator U?
550kHz/1.6MHz 1.5A Step-Down DC-DC Switching Regulator, 8-pin eMSOP; PartNumber: LM2738YMY; Manufacturer: National Semiconductor; PackageTopMarking: ZXTT*SJBB; PowerWise: N; CompType: Switcher; High-Reliability: Y; DatasheetVersion: Apr-2008; PackageVersion: revA, Nov-2003; PackageReference: MUY08A; PackageDescription: Molded Mini-SO, Exposed Pad, .118 x .118 x .034in Body, 8 Lead, .0256in Pitch; RoHS: Y; PinCount: 8; Code_JEDEC: MO-187-AA; ComponentLink1Description: Manufacturer URL; ComponentLink1URL: http://www.national.com/; ComponentLink2Description: LM2738 Datasheet; ComponentLink2URL: http://www.national.com/ds/LM/LM2738.pdf; ComponentLink3Description: LM2738 Web Page; ComponentLink3URL: http://www.national.com/pf/LM/LM2738.html; ComponentLink4Description: MUY08A Package Page; ComponentLink4URL: http://www.national.com/packaging/folders/muy08a.html
footprint MUY08A_N (TSOP, 8-Leads, Body 3x3mm, Pitch 0.65mm, Thermal Pad, IPC Medium Density)
footprint MUY08A_L (TSOP, 8-Leads, Body 3x3mm, Pitch 0.65mm, Thermal Pad, IPC High Density)
footprint MUY08A_M (TSOP, 8-Leads, Body 3x3mm, Pitch 0.65mm, Thermal Pad, IPC Low Density)
pins: 1 BST, 2 IN (power), 3 VCC (power), 4 EN (in), 5 GND (power), 6 FB (in), 7 GND (power), 8 SW (power), 9 EP (power)

## LM2738YMY/NOPB
designator U?
550kHz/1.6MHz 1.5A Step-Down DC-DC Switching Regulator, 8-pin eMSOP, Pb-Free; PartNumber: LM2738YMY/NOPB; Manufacturer: National Semiconductor; PackageTopMarking: ZXTT*SJBB; PowerWise: N; CompType: Switcher; High-Reliability: Y; DatasheetVersion: Apr-2008; PackageVersion: revA, Nov-2003; PackageReference: MUY08A; PackageDescription: Molded Mini-SO, Exposed Pad, .118 x .118 x .034in Body, 8 Lead, .0256in Pitch; RoHS: Y; PinCount: 8; Code_JEDEC: MO-187-AA; ComponentLink1Description: Manufacturer URL; ComponentLink1URL: http://www.national.com/; ComponentLink2Description: LM2738 Datasheet; ComponentLink2URL: http://www.national.com/ds/LM/LM2738.pdf; ComponentLink3Description: LM2738 Web Page; ComponentLink3URL: http://www.national.com/pf/LM/LM2738.html; ComponentLink4Description: MUY08A Package Page; ComponentLink4URL: http://www.national.com/packaging/folders/muy08a.html
footprint MUY08A_N (TSOP, 8-Leads, Body 3x3mm, Pitch 0.65mm, Thermal Pad, IPC Medium Density)
footprint MUY08A_L (TSOP, 8-Leads, Body 3x3mm, Pitch 0.65mm, Thermal Pad, IPC High Density)
footprint MUY08A_M (TSOP, 8-Leads, Body 3x3mm, Pitch 0.65mm, Thermal Pad, IPC Low Density)
pins: 1 BST, 2 IN (power), 3 VCC (power), 4 EN (in), 5 GND (power), 6 FB (in), 7 GND (power), 8 SW (power), 9 EP (power)

## LM2738YMYX/NOPB
designator U?
550kHz/1.6MHz 1.5A Step-Down DC-DC Switching Regulator, 8-pin eMSOP, Pb-Free; PartNumber: LM2738YMYX/NOPB; Manufacturer: National Semiconductor; PackageTopMarking: ZXTT*SJBB; PowerWise: N; CompType: Switcher; High-Reliability: Y; DatasheetVersion: Apr-2008; PackageVersion: revA, Nov-2003; PackageReference: MUY08A; PackageDescription: Molded Mini-SO, Exposed Pad, .118 x .118 x .034in Body, 8 Lead, .0256in Pitch; RoHS: Y; PinCount: 8; Code_JEDEC: MO-187-AA; ComponentLink1Description: Manufacturer URL; ComponentLink1URL: http://www.national.com/; ComponentLink2Description: LM2738 Datasheet; ComponentLink2URL: http://www.national.com/ds/LM/LM2738.pdf; ComponentLink3Description: LM2738 Web Page; ComponentLink3URL: http://www.national.com/pf/LM/LM2738.html; ComponentLink4Description: MUY08A Package Page; ComponentLink4URL: http://www.national.com/packaging/folders/muy08a.html
footprint MUY08A_N (TSOP, 8-Leads, Body 3x3mm, Pitch 0.65mm, Thermal Pad, IPC Medium Density)
footprint MUY08A_L (TSOP, 8-Leads, Body 3x3mm, Pitch 0.65mm, Thermal Pad, IPC High Density)
footprint MUY08A_M (TSOP, 8-Leads, Body 3x3mm, Pitch 0.65mm, Thermal Pad, IPC Low Density)
pins: 1 BST, 2 IN (power), 3 VCC (power), 4 EN (in), 5 GND (power), 6 FB (in), 7 GND (power), 8 SW (power), 9 EP (power)

## LM2738YSD
designator U?
550kHz/1.6MHz 1.5A Step-Down DC-DC Switching Regulator, 8-pin LLP; PartNumber: LM2738YSD; Manufacturer: National Semiconductor; PackageTopMarking: ZXYTT*L174B; PowerWise: N; CompType: Switcher; High-Reliability: Y; DatasheetVersion: Apr-2008; PackageVersion: revA, Aug-2003; PackageReference: SDA08A; PackageDescription: LLP, Plastic, Dual, 3 x 3 x 0.8mm Body, 8 Lead, 0.5mm Pitch, No Pullback; RoHS: Y; PinCount: 8; ComponentLink1Description: Manufacturer URL; ComponentLink1URL: http://www.national.com/; ComponentLink2Description: LM2738 Datasheet; ComponentLink2URL: http://www.national.com/ds/LM/LM2738.pdf; ComponentLink3Description: LM2738 Web Page; ComponentLink3URL: http://www.national.com/pf/LM/LM2738.html; ComponentLink4Description: SDA08A Package Page; ComponentLink4URL: http://www.national.com/packaging/folders/sda08a.html
footprint SDA08A (SON, 8-Leads, Body 3x3mm, Pitch 0.5mm, NSC Recommended)
pins: 1 BST, 2 IN (power), 3 VCC (power), 4 EN (in), 5 GND (power), 6 FB (in), 7 GND (power), 8 SW (power), 9 EP (power)

## LM2738YSD/NOPB
designator U?
550kHz/1.6MHz 1.5A Step-Down DC-DC Switching Regulator, 8-pin LLP, Pb-Free; PartNumber: LM2738YSD/NOPB; Manufacturer: National Semiconductor; PackageTopMarking: ZXYTT*L174B; PowerWise: N; CompType: Switcher; High-Reliability: Y; DatasheetVersion: Apr-2008; PackageVersion: revA, Aug-2003; PackageReference: SDA08A; PackageDescription: LLP, Plastic, Dual, 3 x 3 x 0.8mm Body, 8 Lead, 0.5mm Pitch, No Pullback; RoHS: Y; PinCount: 8; ComponentLink1Description: Manufacturer URL; ComponentLink1URL: http://www.national.com/; ComponentLink2Description: LM2738 Datasheet; ComponentLink2URL: http://www.national.com/ds/LM/LM2738.pdf; ComponentLink3Description: LM2738 Web Page; ComponentLink3URL: http://www.national.com/pf/LM/LM2738.html; ComponentLink4Description: SDA08A Package Page; ComponentLink4URL: http://www.national.com/packaging/folders/sda08a.html
footprint SDA08A (SON, 8-Leads, Body 3x3mm, Pitch 0.5mm, NSC Recommended)
pins: 1 BST, 2 IN (power), 3 VCC (power), 4 EN (in), 5 GND (power), 6 FB (in), 7 GND (power), 8 SW (power), 9 EP (power)

## LM2738YSDX/NOPB
designator U?
550kHz/1.6MHz 1.5A Step-Down DC-DC Switching Regulator, 8-pin LLP, Pb-Free; PartNumber: LM2738YSDX/NOPB; Manufacturer: National Semiconductor; PackageTopMarking: ZXYTT*L174B; PowerWise: N; CompType: Switcher; High-Reliability: Y; DatasheetVersion: Apr-2008; PackageVersion: revA, Aug-2003; PackageReference: SDA08A; PackageDescription: LLP, Plastic, Dual, 3 x 3 x 0.8mm Body, 8 Lead, 0.5mm Pitch, No Pullback; RoHS: Y; PinCount: 8; ComponentLink1Description: Manufacturer URL; ComponentLink1URL: http://www.national.com/; ComponentLink2Description: LM2738 Datasheet; ComponentLink2URL: http://www.national.com/ds/LM/LM2738.pdf; ComponentLink3Description: LM2738 Web Page; ComponentLink3URL: http://www.national.com/pf/LM/LM2738.html; ComponentLink4Description: SDA08A Package Page; ComponentLink4URL: http://www.national.com/packaging/folders/sda08a.html
footprint SDA08A (SON, 8-Leads, Body 3x3mm, Pitch 0.5mm, NSC Recommended)
pins: 1 BST, 2 IN (power), 3 VCC (power), 4 EN (in), 5 GND (power), 6 FB (in), 7 GND (power), 8 SW (power), 9 EP (power)

## LM2742MTC
designator U?
N-Channel FET Synchronous Buck Regulator Controller for Low Output Voltages, 14-pin TSSOP; PartNumber: LM2742MTC; Manufacturer: National Semiconductor; PackageTopMarking: NSZXYTT*2742*MTC; PowerWise: Y; CompType: Switcher; DatasheetVersion: Oct-2007; PackageVersion: revD, Jun-2003; PackageReference: MTC14; PackageDescription: Molded TSSOP, JEDEC, 5 x 4.4 x 0.9mm Body, 14 Lead, 0.65mm Pitch; RoHS: N; PinCount: 14; High-Reliability: Y; Code_JEDEC: MO-153-AB-1; ComponentLink1Description: Manufacturer URL; ComponentLink1URL: http://www.national.com/; ComponentLink2Description: LM2742 Datasheet; ComponentLink2URL: http://www.national.com/ds/LM/LM2742.pdf; ComponentLink3Description: LM2742 Web Page; ComponentLink3URL: http://www.national.com/pf/LM/LM2742.html; ComponentLink4Description: MTC14 Package Page; ComponentLink4URL: http://www.national.com/packaging/folders/mtc14.html
footprint MTC14_N (TSOP, 14-Leads, Body 5x4.4mm, Pitch 0.65mm, IPC Medium Density)
footprint MTC14_L (TSOP, 14-Leads, Body 5x4.4mm, Pitch 0.65mm, IPC High Density)
footprint MTC14_M (TSOP, 14-Leads, Body 5x4.4mm, Pitch 0.65mm, IPC Low Density)
pins: 1 BOOT, 2 LG (out), 3 PGND (power), 4 SGND (power), 5 VCC (power), 6 PWGD (out), 7 ISEN (in), 8 EAO (out), 9 SS (in), 10 FB (in), 11 FREQ (in), 12 ~{SD} (in), 13 PGND (power), 14 HG (out)

## LM2742MTC/NOPB
designator U?
N-Channel FET Synchronous Buck Regulator Controller for Low Output Voltages, 14-pin TSSOP, Pb-Free; PartNumber: LM2742MTC/NOPB; Manufacturer: National Semiconductor; PackageTopMarking: NSZXYTT*2742*MTC; PowerWise: Y; CompType: Switcher; DatasheetVersion: Oct-2007; PackageVersion: revD, Jun-2003; PackageReference: MTC14; PackageDescription: Molded TSSOP, JEDEC, 5 x 4.4 x 0.9mm Body, 14 Lead, 0.65mm Pitch; RoHS: Y; PinCount: 14; High-Reliability: Y; Code_JEDEC: MO-153-AB-1; ComponentLink1Description: Manufacturer URL; ComponentLink1URL: http://www.national.com/; ComponentLink2Description: LM2742 Datasheet; ComponentLink2URL: http://www.national.com/ds/LM/LM2742.pdf; ComponentLink3Description: LM2742 Web Page; ComponentLink3URL: http://www.national.com/pf/LM/LM2742.html; ComponentLink4Description: MTC14 Package Page; ComponentLink4URL: http://www.national.com/packaging/folders/mtc14.html
footprint MTC14_N (TSOP, 14-Leads, Body 5x4.4mm, Pitch 0.65mm, IPC Medium Density)
footprint MTC14_L (TSOP, 14-Leads, Body 5x4.4mm, Pitch 0.65mm, IPC High Density)
footprint MTC14_M (TSOP, 14-Leads, Body 5x4.4mm, Pitch 0.65mm, IPC Low Density)
pins: 1 BOOT, 2 LG (out), 3 PGND (power), 4 SGND (power), 5 VCC (power), 6 PWGD (out), 7 ISEN (in), 8 EAO (out), 9 SS (in), 10 FB (in), 11 FREQ (in), 12 ~{SD} (in), 13 PGND (power), 14 HG (out)

## LM2742MTCX
designator U?
N-Channel FET Synchronous Buck Regulator Controller for Low Output Voltages, 14-pin TSSOP; PartNumber: LM2742MTCX; Manufacturer: National Semiconductor; PackageTopMarking: NSZXYTT*2742*MTC; PowerWise: Y; CompType: Switcher; DatasheetVersion: Oct-2007; PackageVersion: revD, Jun-2003; PackageReference: MTC14; PackageDescription: Molded TSSOP, JEDEC, 5 x 4.4 x 0.9mm Body, 14 Lead, 0.65mm Pitch; RoHS: N; PinCount: 14; High-Reliability: Y; Code_JEDEC: MO-153-AB-1; ComponentLink1Description: Manufacturer URL; ComponentLink1URL: http://www.national.com/; ComponentLink2Description: LM2742 Datasheet; ComponentLink2URL: http://www.national.com/ds/LM/LM2742.pdf; ComponentLink3Description: LM2742 Web Page; ComponentLink3URL: http://www.national.com/pf/LM/LM2742.html; ComponentLink4Description: MTC14 Package Page; ComponentLink4URL: http://www.national.com/packaging/folders/mtc14.html
footprint MTC14_N (TSOP, 14-Leads, Body 5x4.4mm, Pitch 0.65mm, IPC Medium Density)
footprint MTC14_L (TSOP, 14-Leads, Body 5x4.4mm, Pitch 0.65mm, IPC High Density)
footprint MTC14_M (TSOP, 14-Leads, Body 5x4.4mm, Pitch 0.65mm, IPC Low Density)
pins: 1 BOOT, 2 LG (out), 3 PGND (power), 4 SGND (power), 5 VCC (power), 6 PWGD (out), 7 ISEN (in), 8 EAO (out), 9 SS (in), 10 FB (in), 11 FREQ (in), 12 ~{SD} (in), 13 PGND (power), 14 HG (out)